# Altium schematic symbol library LTC1517.SchLib: 1 symbol
Pins are listed as number, name and electrical type; pins without a type are passive.

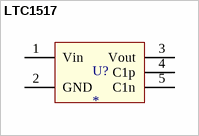
[diagram p0: symbol LTC1517]

## LTC1517
designator U?
pins: 1 Vin, 2 GND, 3 Vout, 4 C1p, 5 C1n